# EAGLE library part DRV8833PWPR (library DRV8833PWPR)
1A Low Voltage Stepper or Single/Dual Brushed DC Motor Driver (PWM Ctrl) 16-HTSSOP -40 to 85
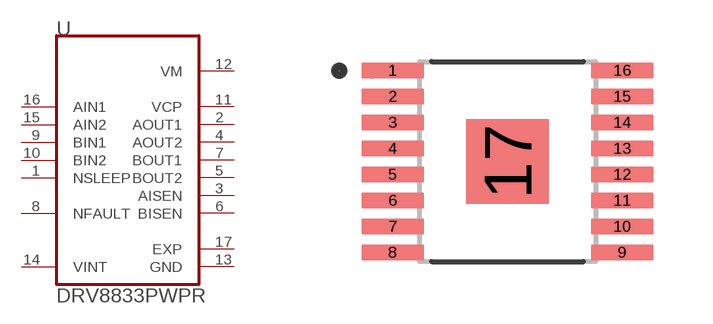
[diagram p0: symbol with the pads of DRV8833PWPR; footprint DRV8833PWPR]

Designator prefix U

## DRV8833PWPR (AVAILABILITY: Unavailable; DESCRIPTION: 1A Low Voltage Stepper or Single/Dual Brushed DC Motor Driver _PWM Ctrl_ 16-HTSSOP -40 to 85; MF: Texas Instruments; MP: DRV8833CPWPR; PACKAGE: HTSSOP-16 Texas Instruments; PRICE: None)  [DRV8833PWPR]
1  NSLEEP  in
2  AOUT1  out
3  AISEN  out
4  AOUT2  out
5  BOUT2  out
6  BISEN  out
7  BOUT1  out
8  NFAULT  pas
9  BIN1  in
10  BIN2  in
11  VCP
12  VM  pwr
13  GND  pwr
14  VINT  pwr
15  AIN2  in
16  AIN1  in
17  EXP  pwr

## Footprint DRV8833PWPR (pad centres in mm)
smd 1.57 x 0.41: 1 -2.87,2.275; 2 -2.87,1.625; 3 -2.87,0.975; 4 -2.87,0.325; 5 -2.87,-0.325; 6 -2.87,-0.975; 7 -2.87,-1.625; 8 -2.87,-2.275; 9 2.87,-2.275; 10 2.87,-1.625; 11 2.87,-0.975; 12 2.87,-0.325; 13 2.87,0.325; 14 2.87,0.975; 15 2.87,1.625; 16 2.87,2.275
smd 2.07 x 2.105: 17 0,0